# EAGLE library part MC68040/68060 (library A3660)
Motorola 68040 or 68060 32 Bit CPU by John Hertell
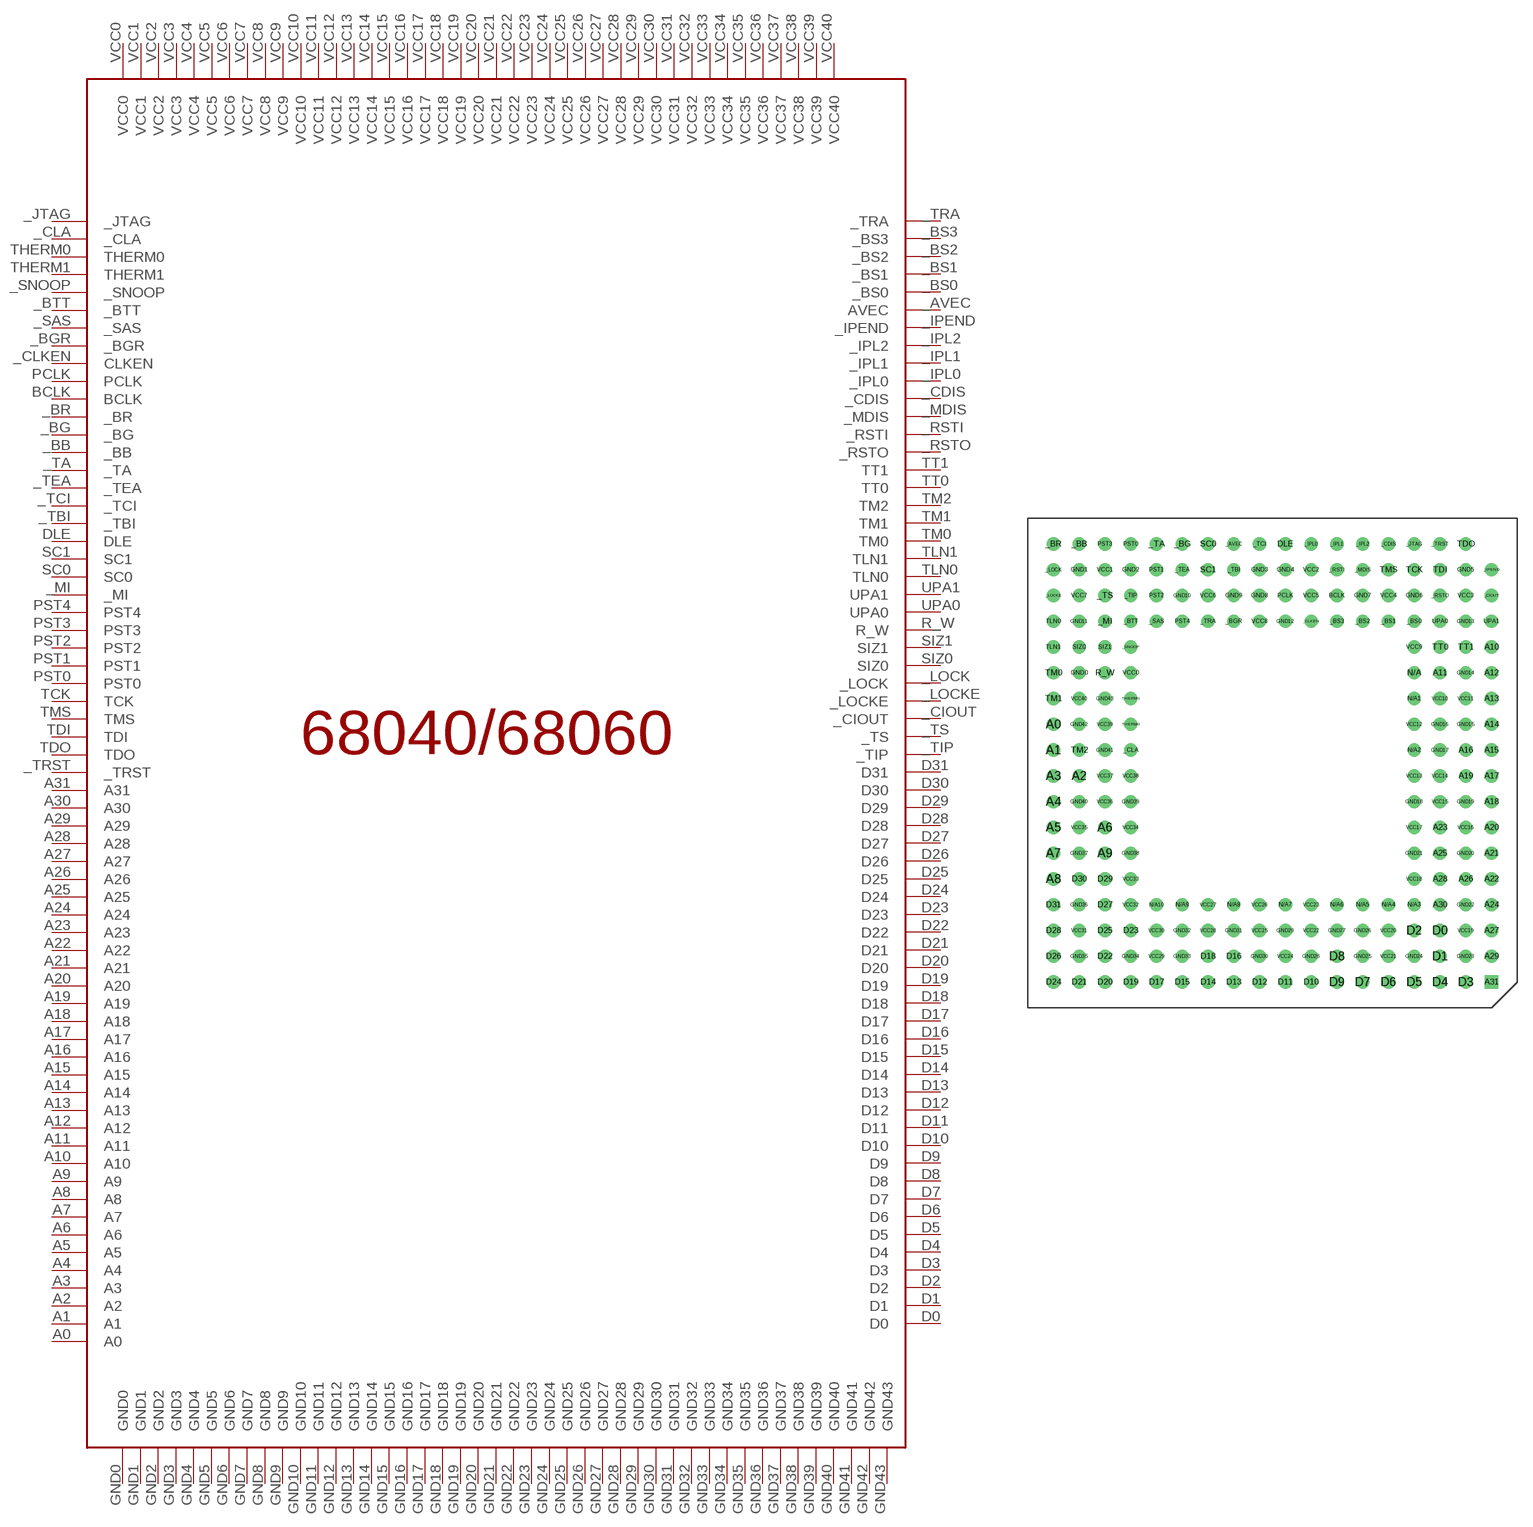
[diagram p0: symbol with the pads of MC68040/68060; footprint MC68040/68060]

Designator prefix -

## MC68040/68060  [MC68040/68060]
_AVEC  AVEC
_BB  _BB
_BG  _BG
_BGR  _BGR
_BR  _BR
_BS0  _BS0
_BS1  _BS1
_BS2  _BS2
_BS3  _BS3
_BTT  _BTT
_CDIS  _CDIS
_CIOUT  _CIOUT
_CLA  _CLA
_CLKEN  CLKEN
_IPEND  _IPEND
_IPL0  _IPL0
_IPL1  _IPL1
_IPL2  _IPL2
_JTAG  _JTAG
_LOCK  _LOCK
_LOCKE  _LOCKE
_MDIS  _MDIS
_MI  _MI
_RSTI  _RSTI
_RSTO  _RSTO
_SAS  _SAS
_SNOOP  _SNOOP
_TA  _TA
_TBI  _TBI
_TCI  _TCI
_TEA  _TEA
_TIP  _TIP
_TRA  _TRA
_TRST  _TRST
_TS  _TS
A0  A0
A1  A1
A2  A2
A3  A3
A4  A4
A5  A5
A6  A6
A7  A7
A8  A8
A9  A9
A10  A10
A11  A11
A12  A12
A13  A13
A14  A14
A15  A15
A16  A16
A17  A17
A18  A18
A19  A19
A20  A20
A21  A21
A22  A22
A23  A23
A24  A24
A25  A25
A26  A26
A27  A27
A28  A28
A29  A29
A30  A30
A31  A31
BCLK  BCLK
D0  D0
D1  D1
D2  D2
D3  D3
D4  D4
D5  D5
D6  D6
D7  D7
D8  D8
D9  D9
D10  D10
D11  D11
D12  D12
D13  D13
D14  D14
D15  D15
D16  D16
D17  D17
D18  D18
D19  D19
D20  D20
D21  D21
D22  D22
D23  D23
D24  D24
D25  D25
D26  D26
D27  D27
D28  D28
D29  D29
D30  D30
D31  D31
DLE  DLE
GND0  GND0
GND1  GND1
GND2  GND2
GND3  GND3
GND4  GND4
GND5  GND5
GND6  GND6
GND7  GND7
GND8  GND8
GND9  GND9
GND10  GND10
GND11  GND11
GND12  GND12
GND13  GND13
GND14  GND14
GND15  GND15
GND16  GND16
GND17  GND17
GND18  GND18
GND19  GND19
GND20  GND20
GND21  GND21
GND22  GND22
GND23  GND23
GND24  GND24
GND25  GND25
GND26  GND26
GND27  GND27
GND28  GND28
GND29  GND29
GND30  GND30
GND31  GND31
GND32  GND32
GND33  GND33
GND34  GND34
GND35  GND35
GND36  GND36
GND37  GND37
GND38  GND38
GND39  GND39
GND40  GND40
GND41  GND41
GND42  GND42
GND43  GND43
PCLK  PCLK
PST0  PST0
PST1  PST1
PST2  PST2
PST3  PST3
PST4  PST4
R_W  R_W
SC0  SC0
SC1  SC1
SIZ0  SIZ0
SIZ1  SIZ1
TCK  TCK
TDI  TDI
TDO  TDO
THERM0  THERM0
THERM1  THERM1
TLN0  TLN0
TLN1  TLN1
TM0  TM0
TM1  TM1
TM2  TM2
TMS  TMS
TT0  TT0
TT1  TT1
UPA0  UPA0
UPA1  UPA1
VCC0  VCC0
VCC1  VCC1
VCC2  VCC2
VCC3  VCC3
VCC4  VCC4
VCC5  VCC5
VCC6  VCC6
VCC7  VCC7
VCC8  VCC8
VCC9  VCC9
VCC10  VCC10
VCC11  VCC11
VCC12  VCC12
VCC13  VCC13
VCC14  VCC14
VCC15  VCC15
VCC16  VCC16
VCC17  VCC17
VCC18  VCC18
VCC19  VCC19
VCC20  VCC20
VCC21  VCC21
VCC22  VCC22
VCC23  VCC23
VCC24  VCC24
VCC25  VCC25
VCC26  VCC26
VCC27  VCC27
VCC28  VCC28
VCC29  VCC29
VCC30  VCC30
VCC31  VCC31
VCC32  VCC32
VCC33  VCC33
VCC34  VCC34
VCC35  VCC35
VCC36  VCC36
VCC37  VCC37
VCC38  VCC38
VCC39  VCC39
VCC40  VCC40

## Footprint MC68040/68060 (pad centres in mm)
drill 0.8: _AVEC -3.81,21.59; _BB -19.05,21.59; _BG -8.89,21.59; _BGR -3.81,13.97; _BR -21.59,21.59; _BS0 13.97,13.97; _BS1 11.43,13.97; _BS2 8.89,13.97; _BS3 6.35,13.97; _BTT -13.97,13.97; _CDIS 11.43,21.59; _CIOUT 21.59,16.51; _CLA -13.97,1.27; _CLKEN 3.81,13.97; _IPEND 21.59,19.05; _IPL0 3.81,21.59; _IPL1 6.35,21.59; _IPL2 8.89,21.59; _JTAG 13.97,21.59; _LOCK -21.59,19.05; _LOCKE -21.59,16.51; _MDIS 8.89,19.05; _MI -16.51,13.97; _RSTI 6.35,19.05; _RSTO 16.51,16.51; _SAS -11.43,13.97; _SNOOP -13.97,11.43; _TA -11.43,21.59; _TBI -3.81,19.05; _TCI -1.27,21.59; _TEA -8.89,19.05; _TIP -13.97,16.51; _TRA -6.35,13.97; _TRST 16.51,21.59; _TS -16.51,16.51; A0 -21.59,3.81; A1 -21.59,1.27; A2 -19.05,-1.27; A3 -21.59,-1.27; A4 -21.59,-3.81; A5 -21.59,-6.35; A6 -16.51,-6.35; A7 -21.59,-8.89; A8 -21.59,-11.43; A9 -16.51,-8.89; A10 21.59,11.43; A11 16.51,8.89; A12 21.59,8.89; A13 21.59,6.35; A14 21.59,3.81; A15 21.59,1.27; A16 19.05,1.27; A17 21.59,-1.27; A18 21.59,-3.81; A19 19.05,-1.27; A20 21.59,-6.35; A21 21.59,-8.89; A22 21.59,-11.43; A23 16.51,-6.35; A24 21.59,-13.97; A25 16.51,-8.89; A26 19.05,-11.43; A27 21.59,-16.51; A28 16.51,-11.43; A29 21.59,-19.05; A30 16.51,-13.97; BCLK 6.35,16.51; D0 16.51,-16.51; D1 16.51,-19.05; D2 13.97,-16.51; D3 19.05,-21.59; D4 16.51,-21.59; D5 13.97,-21.59; D6 11.43,-21.59; D7 8.89,-21.59; D8 6.35,-19.05; D9 6.35,-21.59; D10 3.81,-21.59; D11 1.27,-21.59; D12 -1.27,-21.59; D13 -3.81,-21.59; D14 -6.35,-21.59; D15 -8.89,-21.59; D16 -3.81,-19.05; D17 -11.43,-21.59; D18 -6.35,-19.05; D19 -13.97,-21.59; D20 -16.51,-21.59; D21 -19.05,-21.59; D22 -16.51,-19.05; D23 -13.97,-16.51; D24 -21.59,-21.59; D25 -16.51,-16.51; D26 -21.59,-19.05; D27 -16.51,-13.97; D28 -21.59,-16.51; D29 -16.51,-11.43; D30 -19.05,-11.43; D31 -21.59,-13.97; DLE 1.27,21.59; GND0 -19.05,8.89; GND1 -19.05,19.05; GND2 -13.97,19.05; GND3 -1.27,19.05; GND4 1.27,19.05; GND5 19.05,19.05; GND6 13.97,16.51; GND7 8.89,16.51; GND8 -1.27,16.51; GND9 -3.81,16.51; GND10 -8.89,16.51; GND11 -19.05,13.97; GND12 1.27,13.97; GND13 19.05,13.97; GND14 19.05,8.89; GND15 19.05,3.81; GND16 16.51,3.81; GND17 16.51,1.27; GND18 13.97,-3.81; GND19 19.05,-3.81; GND20 19.05,-8.89; GND21 13.97,-8.89; GND22 19.05,-13.97; GND23 19.05,-19.05; GND24 13.97,-19.05; GND25 8.89,-19.05; GND26 8.89,-16.51; GND27 6.35,-16.51; GND28 3.81,-19.05; GND29 1.27,-16.51; GND30 -1.27,-19.05; GND31 -3.81,-16.51; GND32 -8.89,-16.51; GND33 -8.89,-19.05; GND34 -13.97,-19.05; GND35 -19.05,-19.05; GND36 -19.05,-13.97; GND37 -19.05,-8.89; GND38 -13.97,-8.89; GND39 -13.97,-3.81; GND40 -19.05,-3.81; GND41 -16.51,1.27; GND42 -19.05,3.81; GND43 -16.51,6.35; N/A 13.97,8.89; N/A1 13.97,6.35; N/A2 13.97,1.27; N/A3 13.97,-13.97; N/A4 11.43,-13.97; N/A5 8.89,-13.97; N/A6 6.35,-13.97; N/A7 1.27,-13.97; N/A8 -3.81,-13.97; N/A9 -8.89,-13.97; N/A10 -11.43,-13.97; PCLK 1.27,16.51; PST0 -13.97,21.59; PST1 -11.43,19.05; PST2 -11.43,16.51; PST3 -16.51,21.59; PST4 -8.89,13.97; R_W -16.51,8.89; SC0 -6.35,21.59; SC1 -6.35,19.05; SIZ0 -19.05,11.43; SIZ1 -16.51,11.43; TCK 13.97,19.05; TDI 16.51,19.05; TDO 19.05,21.59; THERM0 -13.97,3.81; THERM1 -13.97,6.35; TLN0 -21.59,13.97; TLN1 -21.59,11.43; TM0 -21.59,8.89; TM1 -21.59,6.35; TM2 -19.05,1.27; TMS 11.43,19.05; TT0 16.51,11.43; TT1 19.05,11.43; UPA0 16.51,13.97; UPA1 21.59,13.97; VCC0 -13.97,8.89; VCC1 -16.51,19.05; VCC2 3.81,19.05; VCC3 19.05,16.51; VCC4 11.43,16.51; VCC5 3.81,16.51; VCC6 -6.35,16.51; VCC7 -19.05,16.51; VCC8 -1.27,13.97; VCC9 13.97,11.43; VCC10 16.51,6.35; VCC11 19.05,6.35; VCC12 13.97,3.81; VCC13 13.97,-1.27; VCC14 16.51,-1.27; VCC15 16.51,-3.81; VCC16 19.05,-6.35; VCC17 13.97,-6.35; VCC18 13.97,-11.43; VCC19 19.05,-16.51; VCC20 11.43,-16.51; VCC21 11.43,-19.05; VCC22 3.81,-16.51; VCC23 3.81,-13.97; VCC24 1.27,-19.05; VCC25 -1.27,-16.51; VCC26 -1.27,-13.97; VCC27 -6.35,-13.97; VCC28 -6.35,-16.51; VCC29 -11.43,-19.05; VCC30 -11.43,-16.51; VCC31 -19.05,-16.51; VCC32 -13.97,-13.97; VCC33 -13.97,-11.43; VCC34 -13.97,-6.35; VCC35 -19.05,-6.35; VCC36 -16.51,-3.81; VCC37 -16.51,-1.27; VCC38 -13.97,-1.27; VCC39 -16.51,3.81; VCC40 -19.05,6.35
drill 0.8 square: A31 21.59,-21.59